# Altium footprint library Daxxn_Connectors.PcbLib: 65 footprints (part 1 of 5)
Each footprint in its own frame and in the unit in brackets; x right, y up, seen from the top. Pads: shape width x height; smd on the part's side, far side on the other; paste and mask are expansions set on the pad; w line width, h text height; cw(c..) or ccw(c..) is an arc to the next point about the centre after c.
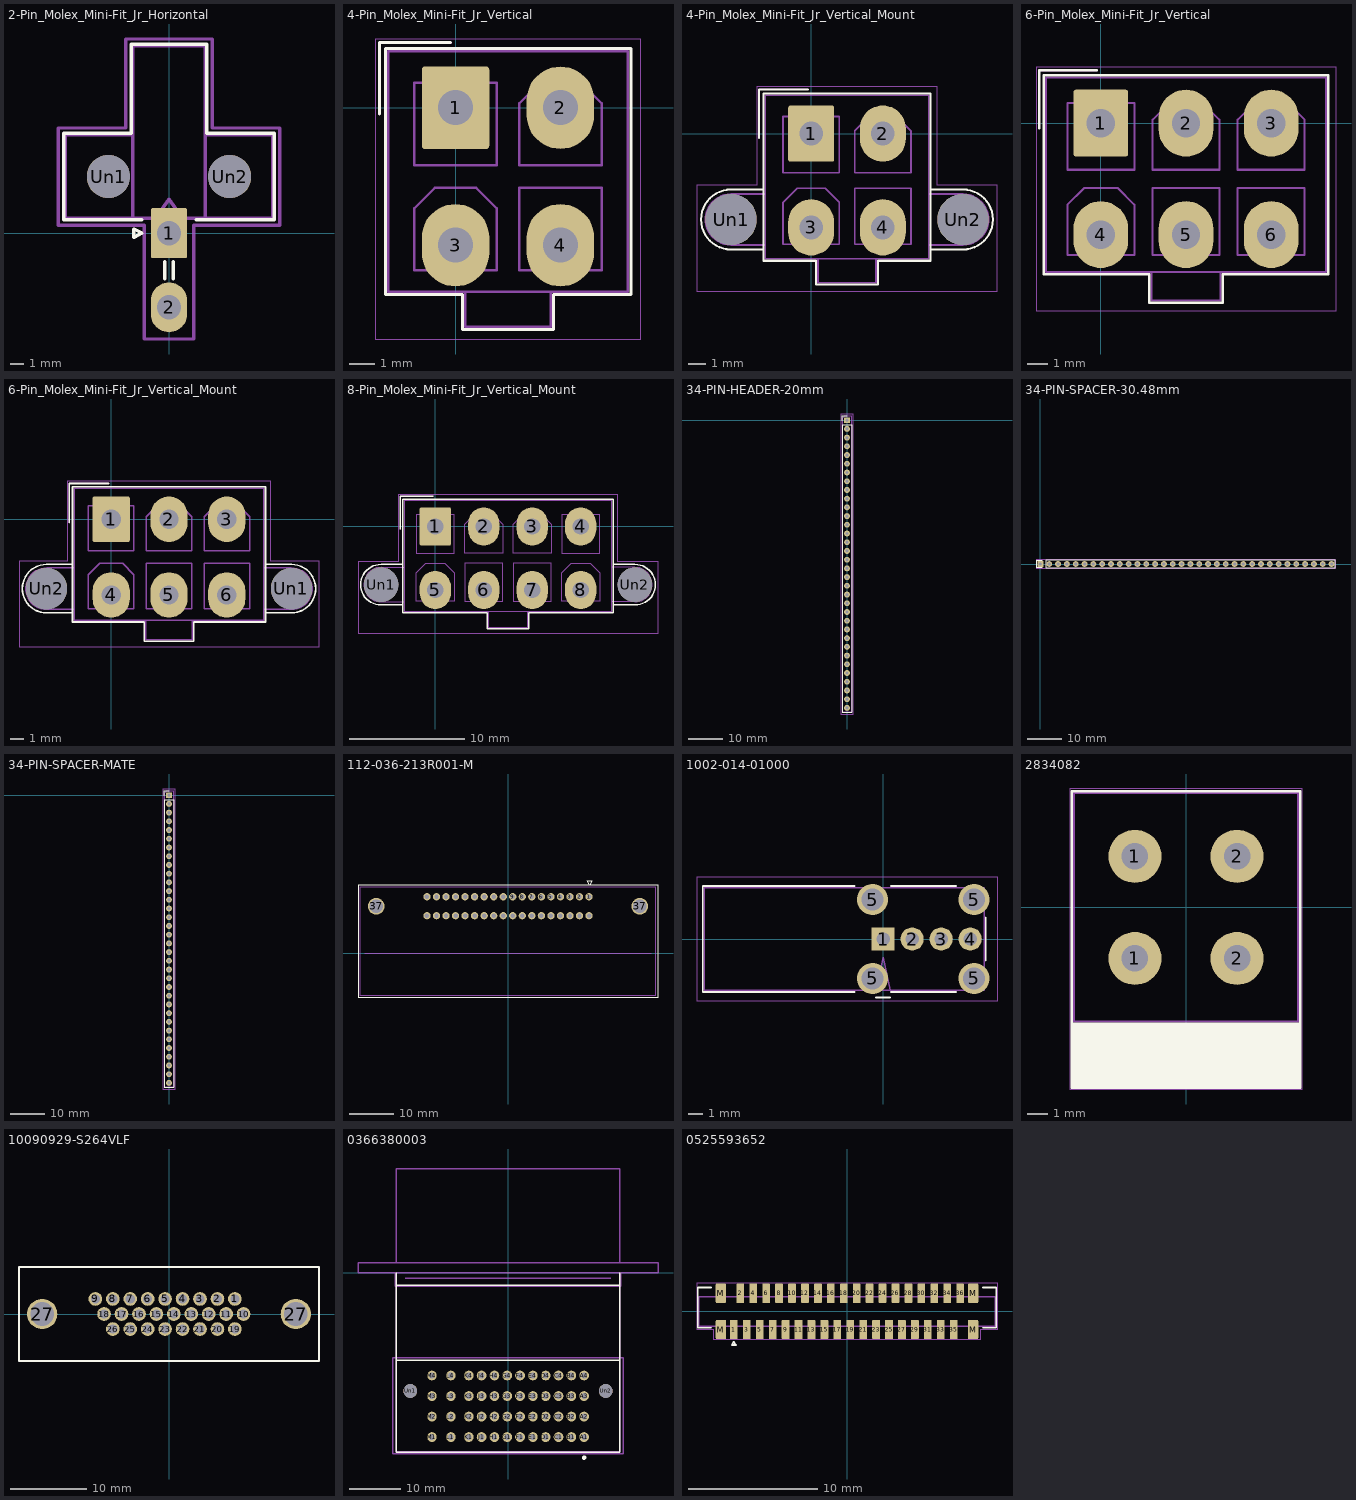
[diagram p0: the footprints below, top view; thin cyan lines are the x and y axes]

## 2-Pin_Molex_Mini-Fit_Jr_Horizontal [mm]
pads (4):
  rrect9% 2.7x3.7 hole 1.8: 1(0,0)
  rrect100% 2.7x3.7 hole 1.8: 2(0,-5.5)
  round 3.2 hole 3.2: Un1(-4.5,4.2) Un2(4.5,4.2)
F.SilkS:
  lines w0.254: -2,0.99 -7.81,0.99 -7.81,7.41 -2.81,7.41 -2.81,14.01 0,14.01 2.81,14.01 2.81,7.41 7.81,7.41 7.81,0.99 2,0.99 ; -0.3,-3.39 -0.3,-2.11 ; 0.3,-3.39 0.3,-2.11 ; -2.6,-0.3 -2.6,0.3 -2,0 -2.6,-0.3
F.CrtYd:
  lines w0.254: -8.2,0.6 -8.2,7.8 -3.2,7.8 -3.2,14.4 0,14.4 3.2,14.4 3.2,7.8 8.2,7.8 8.2,0.6 1.85,0.6 1.85,-7.85 0,-7.85 -1.85,-7.85 -1.85,0.6 -8.2,0.6
F.Fab:
  lines w0.254: -2.7,7.3 -7.7,7.3 -7.7,1.1 -2.7,1.1 ; -1,1.1 0,2.514 1,1.1 ; 2.7,7.3 7.7,7.3 7.7,1.1 2.7,1.1 ; -2.7,1.1 -2.7,13.9 2.7,13.9 2.7,1.1 ; -2.7,1.1 2.7,1.1
  text "'.Designator'" at -4.047,12.36 h1
Eco1.User:
  text "${PARTNUMBER}" at -5.506,-10.962 h1

## 4-Pin_Molex_Mini-Fit_Jr_Vertical [mm]
pads (4):
  rrect9% 2.7x3.3 hole 1.4: 1(0,0)
  rrect100% 2.7x3.3 hole 1.4: 2(4.2,0) 3(0,-5.5) 4(4.2,-5.5)
F.SilkS:
  lines w0.12: -3.05,-0.25 -3.05,2.6 -0.2,2.6 ; -2.81,-7.46 -2.81,2.36 2.1,2.36 7.01,2.36 7.01,-7.46 3.91,-7.46 3.91,-8.86 2.1,-8.86 0.29,-8.86 0.29,-7.46 -2.81,-7.46
F.CrtYd:
  lines w0.05: -3.2,-9.25 -3.2,2.75 7.4,2.75 7.4,-9.25 -3.2,-9.25
F.Fab:
  lines w0.1: -3.05,-0.25 -3.05,2.6 -0.2,2.6 ; 0.4,-7.35 0.4,-8.75 3.8,-8.75 3.8,-7.35 ; -2.7,-7.35 6.9,-7.35 6.9,2.25 -2.7,2.25 -2.7,-7.35 ; -1.65,-6.5 -1.65,-4.025 -0.825,-3.2 0.825,-3.2 1.65,-4.025 1.65,-6.5 -1.65,-6.5 ; -1.65,-2.3 1.65,-2.3 1.65,1 -1.65,1 -1.65,-2.3 ; 2.55,-6.5 5.85,-6.5 5.85,-3.2 2.55,-3.2 2.55,-6.5 ; 2.55,-2.3 2.55,0.175 3.375,1 5.025,1 5.85,0.175 5.85,-2.3 2.55,-2.3
  text "'.Designator'" at -1.947,0.71 h1

## 4-Pin_Molex_Mini-Fit_Jr_Vertical_Mount [mm]
pads (6):
  rrect9% 2.7x3.3 hole 1.4: 1(0,0)
  rrect100% 2.7x3.3 hole 1.4: 2(4.2,0) 3(0,-5.5) 4(4.2,-5.5)
  round 3 hole 3: Un1(-4.7,-5.04) Un2(8.9,-5.04)
F.SilkS:
  lines w0.12: -3.05,-0.25 -3.05,2.6 -0.2,2.6 ; -2.81,-6.8 -4.7,-6.8 cw(c-4.7,-5.04) -4.7,-3.28 -2.81,-3.28 ; 7.01,-6.8 8.9,-6.8 ccw(c8.9,-5.04) 8.9,-3.28 7.01,-3.28 ; -2.81,-7.46 -2.81,2.36 2.1,2.36 7.01,2.36 7.01,-7.46 3.91,-7.46 3.91,-8.86 2.1,-8.86 0.29,-8.86 0.29,-7.46 -2.81,-7.46
F.CrtYd:
  lines w0.05: -6.7,-9.25 10.9,-9.25 10.9,-3.04 7.4,-3.04 7.4,2.75 -3.2,2.75 -3.2,-3.04 -6.7,-3.04 -6.7,-9.25
F.Fab:
  lines w0.1: -3.05,-0.25 -3.05,2.6 -0.2,2.6 ; -2.7,-6.54 -4.7,-6.54 cw(c-4.7,-5.04) -4.7,-3.54 -2.7,-3.54 ; 0.4,-7.35 0.4,-8.75 3.8,-8.75 3.8,-7.35 ; 6.9,-6.54 8.9,-6.54 ccw(c8.9,-5.04) 8.9,-3.54 6.9,-3.54 ; -2.7,-7.35 6.9,-7.35 6.9,2.25 -2.7,2.25 -2.7,-7.35 ; -1.65,-6.5 1.65,-6.5 1.65,-4.025 0.825,-3.2 -0.825,-3.2 -1.65,-4.025 -1.65,-6.5 ; -1.65,-2.3 -1.65,1 1.65,1 1.65,-2.3 -1.65,-2.3 ; 2.55,-6.5 5.85,-6.5 5.85,-3.2 2.55,-3.2 2.55,-6.5 ; 2.55,-2.3 5.85,-2.3 5.85,0.175 5.025,1 3.375,1 2.55,0.175 2.55,-2.3
  text "'.Designator'" at -1.947,0.71 h1

## 6-Pin_Molex_Mini-Fit_Jr_Vertical [mm]
pads (6):
  rrect9% 2.7x3.3 hole 1.4: 1(0,0)
  rrect100% 2.7x3.3 hole 1.4: 2(4.2,0) 3(8.4,0) 4(0,-5.5) 5(4.2,-5.5) 6(8.4,-5.5)
F.SilkS:
  lines w0.12: -3.05,-0.25 -3.05,2.6 -0.2,2.6 ; -2.81,-7.46 -2.81,2.36 4.2,2.36 11.21,2.36 11.21,-7.46 6.01,-7.46 6.01,-8.86 4.2,-8.86 2.39,-8.86 2.39,-7.46 -2.81,-7.46
F.CrtYd:
  lines w0.05: -3.2,-9.25 11.6,-9.25 11.6,2.75 -3.2,2.75 -3.2,-9.25
F.Fab:
  lines w0.1: -3.05,-0.25 -3.05,2.6 -0.2,2.6 ; 2.5,-7.35 2.5,-8.75 5.9,-8.75 5.9,-7.35 ; -2.7,-7.35 11.1,-7.35 11.1,2.25 -2.7,2.25 -2.7,-7.35 ; -1.65,-6.5 1.65,-6.5 1.65,-4.025 0.825,-3.2 -0.825,-3.2 -1.65,-4.025 -1.65,-6.5 ; -1.65,-2.3 -1.65,1 1.65,1 1.65,-2.3 -1.65,-2.3 ; 2.55,-6.5 2.55,-3.2 5.85,-3.2 5.85,-6.5 2.55,-6.5 ; 2.55,-2.3 2.55,0.175 3.375,1 5.025,1 5.85,0.175 5.85,-2.3 2.55,-2.3 ; 6.75,-6.5 6.75,-3.2 10.05,-3.2 10.05,-6.5 6.75,-6.5 ; 6.75,-2.3 10.05,-2.3 10.05,0.175 9.225,1 7.575,1 6.75,0.175 6.75,-2.3
  text "'.Designator'" at 0.153,0.71 h1

## 6-Pin_Molex_Mini-Fit_Jr_Vertical_Mount [mm]
pads (8):
  rrect9% 2.7x3.3 hole 1.4: 1(0,0)
  rrect100% 2.7x3.3 hole 1.4: 2(4.2,0) 3(8.4,0) 4(0,-5.5) 5(4.2,-5.5) 6(8.4,-5.5)
  round 3 hole 3: Un1(13.1,-5.04) Un2(-4.7,-5.04)
F.SilkS:
  lines w0.12: -3.05,-0.25 -3.05,2.6 -0.2,2.6 ; -2.81,-6.8 -4.7,-6.8 cw(c-4.7,-5.04) -4.7,-3.28 -2.81,-3.28 ; 11.21,-6.8 13.1,-6.8 ccw(c13.1,-5.04) 13.1,-3.28 11.21,-3.28 ; -2.81,-7.46 2.39,-7.46 2.39,-8.86 4.2,-8.86 6.01,-8.86 6.01,-7.46 11.21,-7.46 11.21,2.36 4.2,2.36 -2.81,2.36 -2.81,-7.46
F.CrtYd:
  lines w0.05: -6.7,-9.25 15.1,-9.25 15.1,-3.04 11.6,-3.04 11.6,2.75 -3.2,2.75 -3.2,-3.04 -6.7,-3.04 -6.7,-9.25
F.Fab:
  lines w0.1: -3.05,-0.25 -3.05,2.6 -0.2,2.6 ; -2.7,-6.54 -4.7,-6.54 cw(c-4.7,-5.04) -4.7,-3.54 -2.7,-3.54 ; 2.5,-7.35 2.5,-8.75 5.9,-8.75 5.9,-7.35 ; 11.1,-6.54 13.1,-6.54 ccw(c13.1,-5.04) 13.1,-3.54 11.1,-3.54 ; -2.7,-7.35 -2.7,2.25 11.1,2.25 11.1,-7.35 -2.7,-7.35 ; -1.65,-6.5 1.65,-6.5 1.65,-4.025 0.825,-3.2 -0.825,-3.2 -1.65,-4.025 -1.65,-6.5 ; -1.65,-2.3 1.65,-2.3 1.65,1 -1.65,1 -1.65,-2.3 ; 2.55,-6.5 2.55,-3.2 5.85,-3.2 5.85,-6.5 2.55,-6.5 ; 2.55,-2.3 5.85,-2.3 5.85,0.175 5.025,1 3.375,1 2.55,0.175 2.55,-2.3 ; 6.75,-6.5 6.75,-3.2 10.05,-3.2 10.05,-6.5 6.75,-6.5 ; 6.75,-2.3 6.75,0.175 7.575,1 9.225,1 10.05,0.175 10.05,-2.3 6.75,-2.3
  text "'.Designator'" at 0.153,0.71 h1

## 8-Pin_Molex_Mini-Fit_Jr_Vertical_Mount [mm]
pads (10):
  rrect9% 2.7x3.3 hole 1.4: 1(0,0)
  rrect100% 2.7x3.3 hole 1.4: 2(4.2,0) 3(8.4,0) 4(12.6,0) 5(0,-5.5) 6(4.2,-5.5) 7(8.4,-5.5) 8(12.6,-5.5)
  round 3 hole 3: Un1(-4.7,-5.04) Un2(17.3,-5.04)
F.SilkS:
  lines w0.12: -3.05,-0.25 -3.05,2.6 -0.2,2.6 ; -2.81,-6.8 -4.7,-6.8 cw(c-4.7,-5.04) -4.7,-3.28 -2.81,-3.28 ; 15.41,-6.8 17.3,-6.8 ccw(c17.3,-5.04) 17.3,-3.28 15.41,-3.28 ; -2.81,-7.46 4.49,-7.46 4.49,-8.86 6.3,-8.86 8.11,-8.86 8.11,-7.46 15.41,-7.46 15.41,2.36 6.3,2.36 -2.81,2.36 -2.81,-7.46
F.CrtYd:
  lines w0.05: -6.7,-9.25 -6.7,-3.04 -3.2,-3.04 -3.2,2.75 15.8,2.75 15.8,-3.04 19.3,-3.04 19.3,-9.25 -6.7,-9.25
F.Fab:
  lines w0.1: -3.05,-0.25 -3.05,2.6 -0.2,2.6 ; -2.7,-6.54 -4.7,-6.54 cw(c-4.7,-5.04) -4.7,-3.54 -2.7,-3.54 ; 4.6,-7.35 4.6,-8.75 8,-8.75 8,-7.35 ; 15.3,-6.54 17.3,-6.54 ccw(c17.3,-5.04) 17.3,-3.54 15.3,-3.54 ; -2.7,-7.35 -2.7,2.25 15.3,2.25 15.3,-7.35 -2.7,-7.35 ; -1.65,-6.5 1.65,-6.5 1.65,-4.025 0.825,-3.2 -0.825,-3.2 -1.65,-4.025 -1.65,-6.5 ; -1.65,-2.3 1.65,-2.3 1.65,1 -1.65,1 -1.65,-2.3 ; 2.55,-6.5 2.55,-3.2 5.85,-3.2 5.85,-6.5 2.55,-6.5 ; 2.55,-2.3 2.55,0.175 3.375,1 5.025,1 5.85,0.175 5.85,-2.3 2.55,-2.3 ; 6.75,-6.5 10.05,-6.5 10.05,-3.2 6.75,-3.2 6.75,-6.5 ; 6.75,-2.3 10.05,-2.3 10.05,0.175 9.225,1 7.575,1 6.75,0.175 6.75,-2.3 ; 10.95,-6.5 14.25,-6.5 14.25,-4.025 13.425,-3.2 11.775,-3.2 10.95,-4.025 10.95,-6.5 ; 10.95,-2.3 14.25,-2.3 14.25,1 10.95,1 10.95,-2.3
  text "'.Designator'" at 2.253,0.71 h1

## 34-PIN-HEADER-20mm [mm]
pads (34):
  rect 1.7x1.7 hole 1: 1(0,0)
  rrect100% 1.7x1.7 hole 1: 2(0,-2.54) 3(0,-5.08) 4(0,-7.62) 5(0,-10.16) 6(0,-12.7) 7(0,-15.24) 8(0,-17.78) 9(0,-20.32) 10(0,-22.86) 11(0,-25.4) 12(0,-27.94) 13(0,-30.48) 14(0,-33.02) 15(0,-35.56) 16(0,-38.1) 17(0,-40.64) 18(0,-43.18) 19(0,-45.72) 20(0,-48.26) 21(0,-50.8) 22(0,-53.34) 23(0,-55.88) 24(0,-58.42) 25(0,-60.96) 26(0,-63.5) 27(0,-66.04) 28(0,-68.58) 29(0,-71.12) 30(0,-73.66) 31(0,-76.2) 32(0,-78.74) 33(0,-81.28) 34(0,-83.82)
F.SilkS:
  lines w0.12: -1.33,0 -1.33,1.33 0,1.33 ; -1.33,-85.15 1.33,-85.15 1.33,-1.27 -1.33,-1.27 -1.33,-85.15
F.CrtYd:
  lines w0.05: -1.8,-85.6 -1.8,1.8 1.8,1.8 1.8,-85.6 -1.8,-85.6
F.Fab:
  lines w0.1: -1.27,-85.09 1.27,-85.09 1.27,1.27 -0.635,1.27 -1.27,0.635 -1.27,-85.09
  text "'.Designator'" at 0.84,-45.957 h1

## 34-PIN-SPACER-30.48mm [mm]
pads (34):
  rect 1.7x1.7 hole 1: 1(0,0)
  round 1.7 hole 1: 2(2.54,0) 3(5.08,0) 4(7.62,0) 5(10.16,0) 6(12.7,0) 7(15.24,0) 8(17.78,0) 9(20.32,0) 10(22.86,0) 11(25.4,0) 12(27.94,0) 13(30.48,0) 14(33.02,0) 15(35.56,0) 16(38.1,0) 17(40.64,0) 18(43.18,0) 19(45.72,0) 20(48.26,0) 21(50.8,0) 22(53.34,0) 23(55.88,0) 24(58.42,0) 25(60.96,0) 26(63.5,0) 27(66.04,0) 28(68.58,0) 29(71.12,0) 30(73.66,0) 31(76.2,0) 32(78.74,0) 33(81.28,0) 34(83.82,0)
F.SilkS:
  lines w0.12: 0.508,-1.016 -1.016,-1.016 -1.016,1.016 0.508,1.016 ; 1.524,-1.016 1.524,1.016 84.836,1.016 84.836,-1.016 1.524,-1.016
F.CrtYd:
  lines w0.05: -1.27,-1.27 -1.27,1.27 85.09,1.27 85.09,-1.27 -1.27,-1.27
F.Fab:
  text "'.Designator'" at -1.42,3.732 h1

## 34-PIN-SPACER-MATE [mm]
pads (34):
  rect 1.7x1.7 hole 1: 1(0,0)
  rrect100% 1.7x1.7 hole 1: 2(0,-2.54) 3(0,-5.08) 4(0,-7.62) 5(0,-10.16) 6(0,-12.7) 7(0,-15.24) 8(0,-17.78) 9(0,-20.32) 10(0,-22.86) 11(0,-25.4) 12(0,-27.94) 13(0,-30.48) 14(0,-33.02) 15(0,-35.56) 16(0,-38.1) 17(0,-40.64) 18(0,-43.18) 19(0,-45.72) 20(0,-48.26) 21(0,-50.8) 22(0,-53.34) 23(0,-55.88) 24(0,-58.42) 25(0,-60.96) 26(0,-63.5) 27(0,-66.04) 28(0,-68.58) 29(0,-71.12) 30(0,-73.66) 31(0,-76.2) 32(0,-78.74) 33(0,-81.28) 34(0,-83.82)
F.SilkS:
  lines w0.12: -1.33,0 -1.33,1.33 0,1.33 ; -1.33,-85.15 1.33,-85.15 1.33,-1.27 -1.33,-1.27 -1.33,-85.15
F.CrtYd:
  lines w0.05: -1.8,-85.6 -1.8,1.8 1.8,1.8 1.8,-85.6 -1.8,-85.6
F.Fab:
  lines w0.1: -1.27,-85.09 1.27,-85.09 1.27,1.27 -0.635,1.27 -1.27,0.635 -1.27,-85.09
  text "'.Designator'" at 0.84,-45.957 h1

## 112-036-213R001-M [mm]
pads (38):
  round 1.65 hole 1: 1(18.36,12.85) 2(16.2,12.85) 3(14.04,12.85) 4(11.88,12.85) 5(9.72,12.85) 6(7.56,12.85) 7(5.4,12.85) 8(3.24,12.85) 9(1.08,12.85) 10(-1.08,12.85) 11(-3.24,12.85) 12(-5.4,12.85) 13(-7.56,12.85) 14(-9.72,12.85) 15(-11.88,12.85) 16(-14.04,12.85) 17(-16.2,12.85) 18(-18.36,12.85) 19(18.36,8.56) 20(16.2,8.56) 21(14.04,8.56) 22(11.88,8.56) 23(9.72,8.56) 24(7.56,8.56) 25(5.4,8.56) 26(3.24,8.56) 27(1.08,8.56) 28(-1.08,8.56) 29(-3.24,8.56) 30(-5.4,8.56) 31(-7.56,8.56) 32(-9.72,8.56) 33(-11.88,8.56) 34(-14.04,8.56) 35(-16.2,8.56) 36(-18.36,8.56)
  round 3.8 hole 3.1: 37(-29.87,10.7) 37(29.87,10.7)
F.SilkS:
  lines w0.254: -33.98,-9.935 -33.98,15.515 33.98,15.515 33.98,-9.935 -33.98,-9.935 ; 18,16.5 19,16.5 18.5,15.5 18,16.5
B.SilkS:
  lines w0.254: 17.9,15 18.9,15 18.4,14 17.9,15
Dwgs.User:
  lines w0.254: -32.4,0 32.4,0
  text "PCB EDGE" at -3.549,-0.65 h1
F.CrtYd:
  lines w0.254: -33.56,-9.5 -33.56,15 33.5,15 33.5,-9.5 -33.56,-9.5
F.Fab:
  text "'.Designator'" at -4.047,5.66 h1

## 1002-014-01000 [mm]
pads (8):
  rect 1.6x1.6 hole 0.92: 1(0,0)
  round 1.6 hole 0.92: 2(2,0) 3(4,0) 4(6,0)
  round 2.15 hole 1.5: 5(-0.73,-2.72) 5(-0.73,2.72) 5(6.27,-2.72) 5(6.27,2.72)
F.SilkS:
  lines w0.12: -1.98,-3.65 -12.43,-3.65 -12.43,3.65 -1.98,3.65 ; -0.5,-4.03 0.5,-4.03 ; 0.52,-3.65 5.02,-3.65 ; 0.52,3.65 5.02,3.65 ; 7.07,-1.5 7.07,1.5
F.CrtYd:
  lines w0.05: -12.83,-4.3 -12.83,4.3 7.85,4.3 7.85,-4.3 -12.83,-4.3
F.Fab:
  lines w0.1: -0.5,-3.55 0,-1.25 0.5,-3.55 ; -12.33,-3.55 -12.33,3.55 6.97,3.55 6.97,-3.55 -12.33,-3.55
  text "'.Designator'" at -6.902,-0.84 h1

## 34763-0001 [mm]
F.Fab:
  text "'.Designator'" at -18.017,7.415 h1

## 2834082 [mm]
pads (4):
  round 2.6 hole 1.3: 1(-2.5,-2.5) 1(-2.5,2.5) 2(2.5,-2.5) 2(2.5,2.5)
F.SilkS:
  region: 5.6,-8.85 -5.6,-8.85 -5.6,-5.7 5.6,-5.7
  lines w0.12: -5.6,-5.7 -5.6,5.7 5.6,5.7 5.6,-5.7 ; -5.6,-5.7 5.6,-5.7 ; -5.6,-5.7 -5.6,-8.85 5.6,-8.85 5.6,-5.7 ; -5.6,-5.7 5.6,-5.7
F.CrtYd:
  lines w0.05: -5.7,-8.9 -5.7,5.8 5.7,5.8 5.7,-8.9 -5.7,-8.9
F.Fab:
  lines w0.1: -5.5,-5.6 -5.5,5.6 5.5,5.6 5.5,-5.6 -5.5,-5.6
  text "'.Designator'" at -4.047,8.05 h1

## 10090929-S264VLF [mm]
pads (28):
  round 1.8 hole 1.2: 1(8.65,1.98) 2(6.36,1.98) 3(4.07,1.98) 4(1.78,1.98) 5(-0.51,1.98) 6(-2.8,1.98) 7(-5.09,1.98) 8(-7.38,1.98) 9(-9.67,1.98) 10(9.795,0) 11(7.505,0) 12(5.215,0) 13(2.925,0) 14(0.635,0) 15(-1.655,0) 16(-3.945,0) 17(-6.235,0) 18(-8.525,0) 19(8.65,-1.98) 20(6.36,-1.98) 21(4.07,-1.98) 22(1.78,-1.98) 23(-0.51,-1.98) 24(-2.8,-1.98) 25(-5.09,-1.98) 26(-7.38,-1.98)
  round 4 hole 3.1: 27(-16.66,0) 27(16.66,0)
F.SilkS:
  lines w0.254: -19.7,-6.2 -19.7,6.2 19.7,6.2 19.7,-6.2 -19.7,-6.2
B.SilkS:
  text "9" at -9.341,2.35 h1
  text "18" at -9.65,-0.65 h1
  text "19" at 9.526,-3.75 h1
  text "26" at -6.495,-3.75 h1
  text "1" at 8.969,2.35 h1
  text "10" at 12.5,-0.65 h1
F.Fab:
  text "'.Designator'" at -4.047,3.16 h1

## 0366380003 [mm]
pads (50):
  round 1.9 hole 1.1: A1(14.85,-32) A2(14.85,-28) A3(14.85,-24) A4(14.85,-20) B1(12.35,-32) B2(12.35,-28) B3(12.35,-24) B4(12.35,-20) C1(9.85,-32) C2(9.85,-28) C3(9.85,-24) C4(9.85,-20) D1(7.35,-32) D2(7.35,-28) D3(7.35,-24) D4(7.35,-20) E1(4.85,-32) E2(4.85,-28) E3(4.85,-24) E4(4.85,-20) F1(2.35,-32) F2(2.35,-28) F3(2.35,-24) F4(2.35,-20) G1(-0.15,-32) G2(-0.15,-28) G3(-0.15,-24) G4(-0.15,-20) H1(-2.65,-32) H2(-2.65,-28) H3(-2.65,-24) H4(-2.65,-20) J1(-5.15,-32) J2(-5.15,-28) J3(-5.15,-24) J4(-5.15,-20) K1(-7.65,-32) K2(-7.65,-28) K3(-7.65,-24) K4(-7.65,-20) L1(-11.15,-32) L2(-11.15,-28) L3(-11.15,-24) L4(-11.15,-20) M1(-14.85,-32) M2(-14.85,-28) M3(-14.85,-24) M4(-14.85,-20)
  round 2.7 hole 2.7: Un1(-19.05,-23) Un2(19.05,-23)
F.SilkS:
  circle w0.254: c14.85,-36 r0.3
  region: 14.967,-35.717 15.066,-35.784 15.133,-35.883 15.156,-36 15.133,-36.117 15.066,-36.216 14.967,-36.283 14.85,-36.306 14.733,-36.283 14.634,-36.216 14.567,-36.117 14.544,-36 14.567,-35.883 14.634,-35.784 14.733,-35.717 14.85,-35.694
  lines w0.254: -21.8,0 -21.8,-35 21.8,-35 21.8,0 ; -21.75,-17 21.75,-17 ; -21.7,-2.4 21.8,-2.4
Dwgs.User:
  lines w0.254: -20,-1 20,-1
F.CrtYd:
  lines w0.254: -22.5,-35.25 -22.5,-16.5 22.5,-16.5 22.5,-35.25 -22.5,-35.25 ; -22,-2.6 -22,0 22,0 22,-2.6 -22,-2.6
F.Fab:
  lines w0.254: -21.75,0 -21.75,-34.9 21.75,-34.9 21.75,0 ; -21.75,2 -21.75,20.3 21.75,20.3 21.75,2 ; -29.25,0 -29.25,2 29.25,2 29.25,0 -29.25,0
  text "'.Designator'" at -4.047,-39.84 h1

## 0525593652 [mm]
pads (40):
  rrect20% 0.6x1.5 smd: 1(-8.75,-1.4) 2(-8.25,1.4) 3(-7.75,-1.4) 4(-7.25,1.4) 5(-6.75,-1.4) 6(-6.25,1.4) 7(-5.75,-1.4) 8(-5.25,1.4) 9(-4.75,-1.4) 10(-4.25,1.4) 11(-3.75,-1.4) 12(-3.25,1.4) 13(-2.75,-1.4) 14(-2.25,1.4) 15(-1.75,-1.4) 16(-1.25,1.4) 17(-0.75,-1.4) 18(-0.25,1.4) 19(0.25,-1.4) 20(0.75,1.4) 21(1.25,-1.4) 22(1.75,1.4) 23(2.25,-1.4) 24(2.75,1.4) 25(3.25,-1.4) 26(3.75,1.4) 27(4.25,-1.4) 28(4.75,1.4) 29(5.25,-1.4) 30(5.75,1.4) 31(6.25,-1.4) 32(6.75,1.4) 33(7.25,-1.4) 34(7.75,1.4) 35(8.25,-1.4) 36(8.75,1.4)
  rrect20% 0.8x1.5 smd: M(-9.75,-1.4) M(-9.75,1.4) M(9.75,-1.4) M(9.75,1.4)
F.SilkS:
  lines w0.12: -10.5,-1.25 -11.55,-1.25 -11.55,1.85 -10.5,1.85 ; 10.5,-1.25 11.55,-1.25 11.55,1.85 10.5,1.85
  lines w0.15: -8.9,-2.6 -8.75,-2.35 -8.6,-2.6 -8.9,-2.6
F.CrtYd:
  lines w0.05: -11.6,-1.4 -11.6,2.2 11.6,2.2 11.6,-1.4 10.3,-1.4 10.3,-2.2 -10.3,-2.2 -10.3,-1.4 -11.6,-1.4
F.Fab:
  lines w0.1: -11.45,-1.15 -11.45,1.15 11.45,1.15 11.45,-1.15 -11.45,-1.15
  text "'.Designator'" at -1.037,-0.035 h0.25